# Altium footprint library ELSMTD4h5.4.PcbLib: 1 footprints
Each footprint in its own frame and in the unit in brackets; x right, y up, seen from the top. Pads: shape width x height; smd on the part's side, far side on the other; paste and mask are expansions set on the pad; w line width, h text height; cw(c..) or ccw(c..) is an arc to the next point about the centre after c.
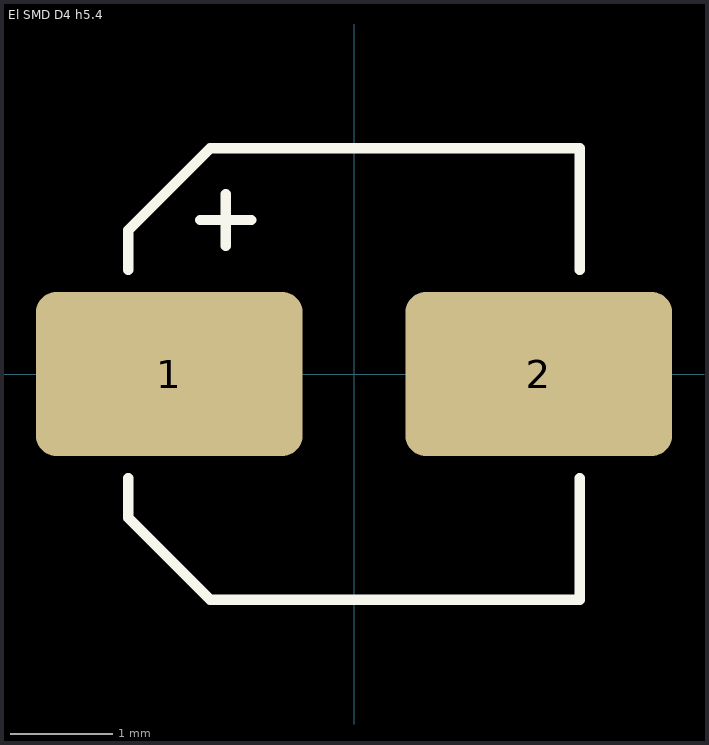
[diagram p0: the footprint, top view; thin cyan lines are the x and y axes]

## El SMD D4 h5.4 [mm]
height 5.4
pads (2):
  rrect25% 2.6x1.6 smd mask+0.102: 1(-1.8,0) 2(1.8,0)
Top Overlay:
  lines w0.1: -2.2,-1.016 -2.2,-1.4 -1.4,-2.2 2.2,-2.2 2.2,-1.016 ; -2.2,1.016 -2.2,1.4 -1.4,2.2 2.2,2.2 2.2,1.016 ; -1.5,1.5 -1,1.5 ; -1.25,1.25 -1.25,1.75
3D body "Cap EL SMD D4 h5.4.STEP": height 5.8, standoff 0, extent -2.5,-2.15 2.5,2.15